# Altium schematic symbol library misc.SchLib: 48 symbols
Pins are listed as number, name and electrical type; pins without a type are passive.

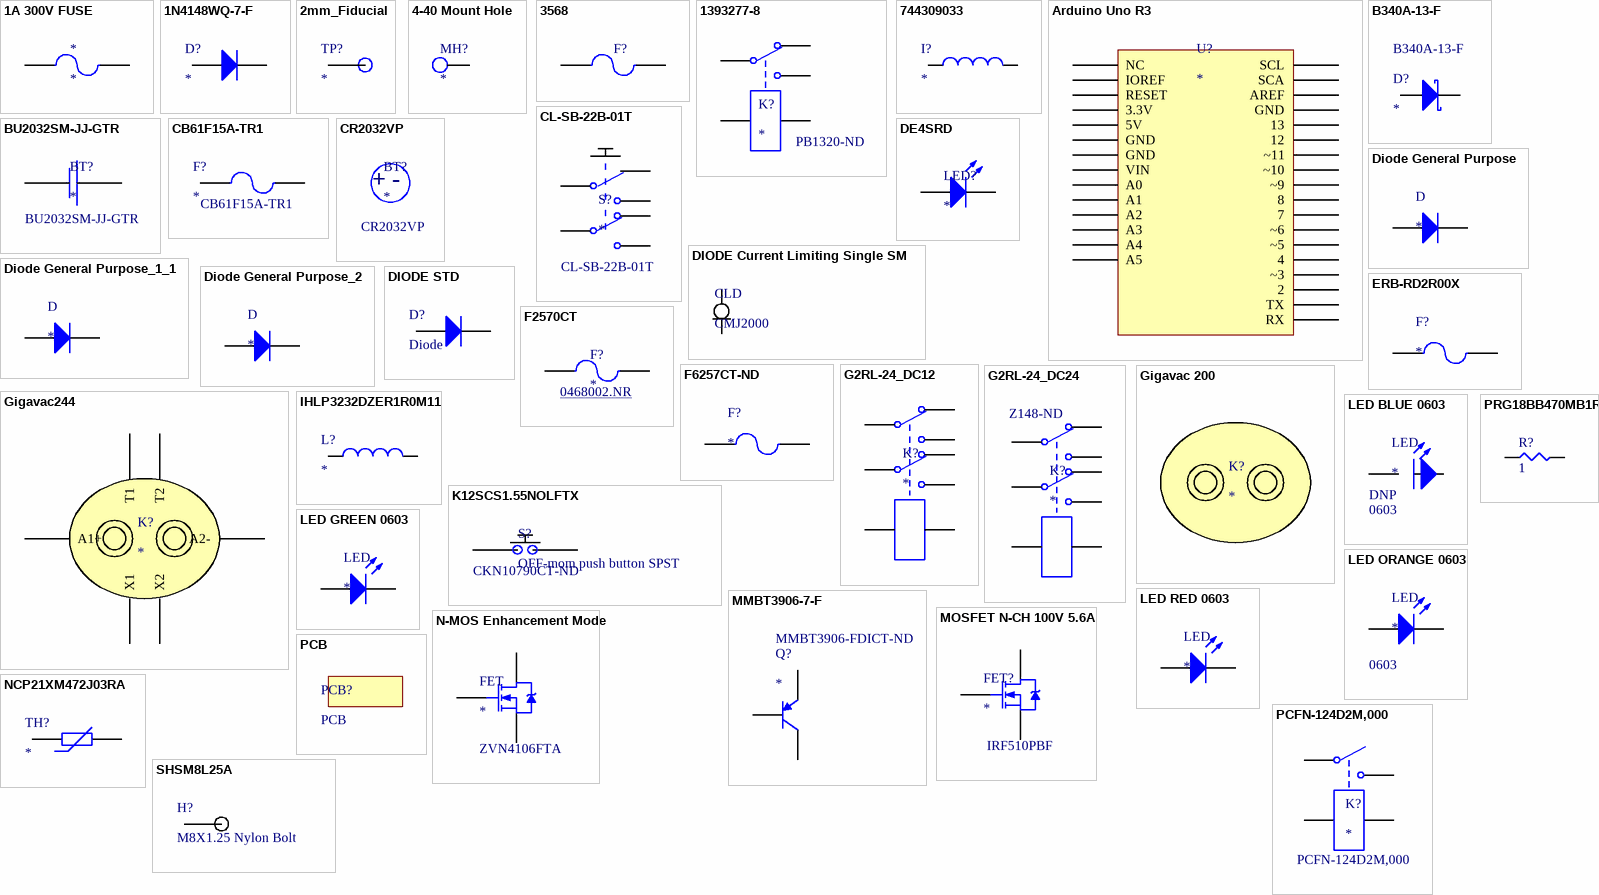
[diagram p0: symbols 1A 300V FUSE to SHSM8L25A]

## 1A 300V FUSE
designator *
1A 300V Fuse; ComponentLink1Description: Manufacturer Data Sheet; ComponentLink1URL: http://www.littelfuse.com/~/media/electronics/datasheets/fuses/littelfuse_fuse_462_datasheet.pdf.pdf; ComponentLink2Description: Digikey; ComponentLink2URL: https://www.digikey.com/product-detail/en/littelfuse-inc/46211000000/F6007CT-ND/4146345
footprint SMD-1206-RES
pins: 1, 2

## 1N4148WQ-7-F
designator D?
Diodes - General Purpose, Power, Switching SMT Fast Switching Diode; Manufacturer P/N: 1N4148WQ-7-F; Manufacturer: Diodes Inc.; Digikey Link: https://www.digikey.com/product-detail/en/diodes-incorporated/1N4148WQ-7-F/1N4148WQ-7-FDITR-ND/8136126; Digikey P/N: 1N4148WQ-7-FDITR-ND
footprint SODFL350X80-2N (SODFL, 2-Leads, Body 1.60x3.50mm, IPC Medium Density)
pins: 1 A, 2 K

## 2mm_Fiducial
designator TP?
Fiducial 2mm
footprint 2mm_Fiducial
pins: 1

## 4-40 Mount Hole
designator MH?
footprint MH (#10 Mount Hole)
pins: 46

## 3568
designator F?  (value not drawn)
FUSE HOLDER MINI AUTO PC; Manufacturer: Keystone Electronics; Manufacturer Part Number: 3568; Material: Brass,Tin,Nylon; Color: Black; Body Material: Nylon; Current Rating: 20A; Voltage Rating (AC): 500V; Number of Poles: 1; Illumination Type: Illuminated; Fuse Type: Automotive; Approvals: UL; Supplier 1: Digi-Key; Stock 1: 0; Mount: PCB,Vertical; Contact Material: Brass,Tin; Contact Plating: Tin; Min Operating Temperature: -50°C; Max Operating Temperature: 145°C; Package Quantity: 1; Termination: PC Pin; Orientation: Vertical; Number of Circuits: 1; Voltage: 500V; Fuse Current: 20A; Length: 16mm; Depth: 6.73mm; Lead Free: Lead Free; REACH SVHC: No SVHC; Flammability Rating: UL94 V-0; ComponentLink1URL: http://www.keyelco.com/userAssets/file/M60-2p40.pdf?src-supplier=Future+Electronics; ComponentLink1Description: http://www.keyelco.com/userAssets/file/M60-2p40.pdf?src-supplier=Future+Electronics; ComponentLink2URL: https://www.alliedelec.com/m/d/15b4f09b8ba48c4b08efedd730709c21.pdf?src-supplier=Allied+Electronics; ComponentLink2Description: https://www.alliedelec.com/m/d/15b4f09b8ba48c4b08efedd730709c21.pdf?src-supplier=Allied+Electronics; Supplier Part Number 1: 3568K-ND
footprint Fuse Holder 30A 500V 1 Circuit Blade Through Hole
pins: 1, 2

## 1393277-8
designator K?  Supplier Part Number 1: PB1320-ND
RELAY AUTOMOTIVE SPDT 45A 24V; Manufacturer: TE Connectivity; Manufacturer Part Number: 1393277-8; Coil Current: 66.29mA; Coil Resistance: 362R; Coil Power: 1.6W; Operate Time: 5ms; Number of Contacts: 2; Release Time: 3ms; Coil Type: Non-Latching; Supplier 1: Digi-Key; Stock 1: 2937; Pricing 1: 1=5.39, 10=5.053, 25=4.4912, 50=4.2666, 100=4.042, 250=3.73328 (USD); Mount: Through Hole; Number of Pins: 7; Weight: 22g; Contact Material: Silver; Min Operating Temperature: -40°C; Max Operating Temperature: 105°C; Throw Configuration: SPDT; Coil Voltage (DC): 24V; Termination: PCB; Contact Current Rating: 45A; Current Rating: 45A; Packaging: Bulk; Package Quantity: 525; Relay Type: Relay; Length: 26.1mm; Height: 21.2mm; Depth: 21.1mm; Width: 21.1mm; Radiation Hardening: No; Lead Free: Lead Free; ELV: Compliant; ComponentLink1URL: https://www.verical.com/server-webapp/html/getDatasheet?partID=318318&src-supplier=Verical; ComponentLink1Description: https://www.verical.com/server-webapp/html/getDatasheet?partID=318318&src-supplier=Verical; ComponentLink2URL: https://www.te.com/commerce/DocumentDelivery/DDEController?Action=srchrtrv&DocNm=V23133-X0000-A001&DocType=DS&DocLang=English&src-supplier=Digi-Key; ComponentLink2Description: https://www.te.com/commerce/DocumentDelivery/DDEController?Action=srchrtrv&DocNm=V23133-X0000-A001&DocType=DS&DocLang=English&src-supplier=Digi-Key
footprint RELAY AUTOMOTIVE SPDT 45A 24V - duplicate
pins: 1, 2, 3, 4, 5

## 744309033
designator I?
FIXED IND 330NH 47.5A 0.165 MOHM; Manufacturer: Wurth; Manufacturer P/N: 744309033; Digikey Link: https://www.digikey.com/product-detail/en/wurth-electronics-inc/744309033/732-3006-1-ND/2626130; Digikey P/N: 732-3006-1-ND
footprint INDM140130X90N (Molded Inductor, 2-Leads, Body 14.00x13.00mm, IPC Medium Density)
pins: 1, 2

## Arduino Uno R3
designator U?
Arduino Uno R3
footprint Arduino Uno R3
pins: 1 NC, 2 IOREF, 3 RESET, 4 3.3V, 5 5V, 6 GND, 7 GND, 8 VIN, 9 A0, 10 A1, 11 A2, 12 A3, 13 A4, 14 A5, 15 RX, 16 TX, 17 2, 18 ~3, 19 4, 20 ~5, 21 ~6, 22 7, 23 8, 24 ~9, 25 ~10, 26 ~11, 27 12, 28 13, 29 GND, 30 AREF, 31 SCA, 32 SCL

## B340A-13-F
designator D?  Manufacturer Part Number: B340A-13-F
DIODE SCHOTTKY 40V 3A SMA; Manufacturer: Diodes; Element Configuration: Single; Peak Reverse Current: 500uA; Forward Voltage: 500mV; Max Forward Surge Current (Ifsm): 80A; Polarity: Standard; Capacitance: 250pF; Supplier 1: Digi-Key; Stock 1: 438328; Pricing 1: 1=0.42000, 10=0.33900, 100=0.23070, 500=0.17304, 1000=0.12978 (USD); RoHS: Yes; Mount: Surface Mount; Case/Package: SMA; Number of Pins: 2; Weight: 0.002258oz; Contact Plating: Tin,Matte; Min Operating Temperature: -55°C; Max Operating Temperature: 125°C; Forward Current: 3A; Max Repetitive Reverse Voltage (Vrrm): 40V; Packaging: Tape and Reel; Peak Non-Repetitive Surge Current: 80A; Package Quantity: 5000; Average Rectified Current: 3A; Termination: SMD/SMT; Voltage Rating (DC): 40V; Current Rating: 3A; Output Current: 3A; Current: 3A; Voltage: 40V; Max Reverse Voltage (DC): 40V; Length: 4.6mm; Height: 2.3mm; Width: 2.92mm; Radiation Hardening: No; REACH SVHC: No SVHC; Lead Free: Lead Free; ComponentLink1URL: https://datasheet.ciiva.com/26949/getdatasheetpartid-143394-26949352.pdf?src-supplier=Verical; ComponentLink1Description: https://datasheet.ciiva.com/26949/getdatasheetpartid-143394-26949352.pdf?src-supplier=Verical; ComponentLink2URL: https://datasheet.ciiva.com/4245/861ds30891-4245763.pdf?src-supplier=Arrow; ComponentLink2Description: https://datasheet.ciiva.com/4245/861ds30891-4245763.pdf?src-supplier=Arrow; ComponentLink3URL: https://datasheet.ciiva.com/1177/ds30891-1177476.pdf?src-supplier=Element14; ComponentLink3Description: https://datasheet.ciiva.com/1177/ds30891-1177476.pdf?src-supplier=Element14; ComponentLink4URL: https://datasheet.ciiva.com/913/ds30891-913638.pdf?src-supplier=Digi-Key; ComponentLink4Description: https://datasheet.ciiva.com/913/ds30891-913638.pdf?src-supplier=Digi-Key; ComponentLink5URL: https://datasheet.ciiva.com/46393/1911813-46393773.pdf?src-supplier=Element14; ComponentLink5Description: https://datasheet.ciiva.com/46393/1911813-46393773.pdf?src-supplier=Element14; ComponentLink6URL: https://datasheet.ciiva.com/1240/ds30891-1240228.pdf?src-supplier=Newark; ComponentLink6Description: https://datasheet.ciiva.com/1240/ds30891-1240228.pdf?src-supplier=Newark; ComponentLink7URL: https://datasheet.ciiva.com/913/ds30891-913637.pdf?src-supplier=Digi-Key; ComponentLink7Description: https://datasheet.ciiva.com/913/ds30891-913637.pdf?src-supplier=Digi-Key; ComponentLink8URL: https://datasheet.ciiva.com/913/ds30891-913639.pdf?src-supplier=Digi-Key; ComponentLink8Description: https://datasheet.ciiva.com/913/ds30891-913639.pdf?src-supplier=Digi-Key; Supplier Part Number 1: B340A-FDICT-ND
footprint DIOM4326X20N (Molded Diode, 2-Leads, Body 4.30x2.61mm, IPC Medium Density)
pins: 1 K, 2 A

## BU2032SM-JJ-GTR
designator BT?  Manufacturer Part Number: BU2032SM-JJ-GTR
HOLDER COIN CELL 2032 SMD; Manufacturer: Memory Protection Devices; Number of Cells: 1; Supplier 1: Digi-Key; Stock 1: 90564; Pricing 1: 1=0.99, 10=0.836, 100=0.6907 (USD); Mount: Surface Mount,PCB; Min Operating Temperature: -40°C; Max Operating Temperature: 280°C; Package Quantity: 400; Termination: SMD/SMT; ComponentLink1URL: http://www.memoryprotectiondevices.com/datasheets/BU2032SM-JJ-GTR-datasheet.pdf?src-supplier=Digi-Key; ComponentLink1Description: http://www.memoryprotectiondevices.com/datasheets/BU2032SM-JJ-GTR-datasheet.pdf?src-supplier=Digi-Key; ComponentLink2URL: https://media.digikey.com/pdf/Data%20Sheets/Memory%20Protection%20PDFs/Coin_Cell_Guide.pdf?src-supplier=Digi-Key; ComponentLink2Description: https://media.digikey.com/pdf/Data%20Sheets/Memory%20Protection%20PDFs/Coin_Cell_Guide.pdf?src-supplier=Digi-Key; Supplier Part Number 1: BU2032SM-JJ-GDKR-ND
footprint BATTERY HOLDER COIN 20MM
pins: 1 +, 2 -

## CB61F15A-TR1
designator F?  Manufacturer Part Number: CB61F15A-TR1
FUSE BRD MNT 15A 125VAC/VDC 2SMD; Manufacturer: Eaton; Voltage Rating (AC): 125V; DC Cold Resistance: 4mR; Fuse Type: Board Mount (Cartridge Style Excluded); Approvals: cULus,PSE; Supplier 1: Digi-Key; Stock 1: 11809; Pricing 1: 1=1.15000, 5=1.11800, 10=1.04600, 50=0.86600, 100=0.72160, 250=0.70356, 500=0.59532 (USD); RoHS: Yes; Mount: Surface Mount; Case/Package: SMD/SMT; Current Rating: 15A; Packaging: Tape and Reel; Voltage Rating (DC): 125V; Voltage Rating: 125V; Length: 0.24inch; Height: 0.101inch; Width: 0.101inch; Depth: 2.57mm; Lead Free: Lead Free; ComponentLink1URL: http://components.arrow.com/part/dataview/0323_05918082?src-supplier=Arrow+Europe; ComponentLink1Description: http://components.arrow.com/part/dataview/0323_05918082?src-supplier=Arrow+Europe; ComponentLink2URL: http://www.cooperindustries.com/content/dam/public/bussmann/Electronics/Resources/product-datasheets/bus-elx-ds-4377-cb61f.pdf?src-supplier=Avnet+Asia; ComponentLink2Description: http://www.cooperindustries.com/content/dam/public/bussmann/Electronics/Resources/product-datasheets/bus-elx-ds-4377-cb61f.pdf?src-supplier=Avnet+Asia; ComponentLink3URL: http://www.cooperindustries.com/content/dam/public/bussmann/Electronics/Resources/product-datasheets/bus-elx-ds-4377-cb61f.pdf?src-supplier=Avnet; ComponentLink3Description: http://www.cooperindustries.com/content/dam/public/bussmann/Electronics/Resources/product-datasheets/bus-elx-ds-4377-cb61f.pdf?src-supplier=Avnet; ComponentLink4URL: http://www.cooperindustries.com/content/dam/public/bussmann/Electronics/Resources/product-datasheets/bus-elx-ds-4377-cb61f.pdf?src-supplier=Digi-Key; ComponentLink4Description: http://www.cooperindustries.com/content/dam/public/bussmann/Electronics/Resources/product-datasheets/bus-elx-ds-4377-cb61f.pdf?src-supplier=Digi-Key; Supplier Part Number 1: 283-4104-1-ND
footprint RESC6132X26N (Chip Resistor, 2-Leads, Body 6.10x3.18mm, IPC Medium Density)
pins: 1, 2

## CL-SB-22B-01T
designator S?  Manufacturer Part Number: CL-SB-22B-01T
SWITCH SLIDE DPDT 200MA 12V; Manufacturer: Nidec Copal; Actuator Material: Nylon,Polyamide; Contact Style: Non-Shorting; Electrical Life: 10000Cycles; Switch Travel: 2mm; Switch Function: On-On; Actuator Type: Standard; Operating Force: 153gf; Supplier 1: Digi-Key; Stock 1: 3664; Pricing 1: 1=1.02, 10=0.979, 25=0.9592, 50=0.857, 100=0.8162, 250=0.79584 (USD); Mount: Surface Mount; Contact Material: Copper; Contact Plating: Silver; Min Operating Temperature: -40°C; Max Operating Temperature: 85°C; Packaging: Tape and Reel; Current Rating: 200mA; Voltage Rating (DC): 12V; Throw Configuration: DPDT; Termination: Gull Wing; Actuator Length: 2mm; Lead Free: Lead Free; ComponentLink1URL: https://www.nidec-copal-electronics.com/e/catalog/switch/cl-sb.pdf?src-supplier=Digi-Key; ComponentLink1Description: https://www.nidec-copal-electronics.com/e/catalog/switch/cl-sb.pdf?src-supplier=Digi-Key; Supplier Part Number 1: 563-1342-6-ND
footprint SOP250P500X350-6N (SOP, 6-Leads, Body 8.50x3.50mm, Pitch 2.50mm, IPC Medium Density)
pins: 1, 2, 3, 4, 5, 6

## CR2032VP
designator BT?  Manufacturer Part Number: CR2032VP  (mechanical)
BATTERY LITHIUM 3V COIN 20MM; Manufacturer: Energizer; Capacity: 240mAh; Supplier 1: Newark; Stock 1: 0; Weight: 0.1oz; Voltage Rating: 3V; Package Quantity: 200; Height: 0.13inch; ComponentLink1URL: http://data.energizer.com/pdfs/cr2032.pdf?src-supplier=Digi-Key; ComponentLink1Description: http://data.energizer.com/pdfs/cr2032.pdf?src-supplier=Digi-Key; Supplier Part Number 1: 41P0336
text: + -

## DE4SRD
designator LED?
LED Bars and Arrays Red 640nm 300mcd Diffused Light Bar; Manufacturer: Kingbright; Manufacturer Part Number: DE4SRD; Lens Style: Diffused,Tinted; Voltage Rating: 1.85V; Luminous Intensity: 340mcd; Current: 30mA; Forward Current: 20mA; Power Rating: 75mW; Element Configuration: Single; Supplier 1: Digi-Key; Stock 1: 3382; Pricing 1: 1=2.5, 10=2.217, 100=1.287, 500=1.144, 1000=0.98313, 2500=0.9295 (USD); Mount: Through Hole; Color: Red; Package Quantity: 33; Forward Voltage: 1.85V; Packaging: Rail/Tube; Illumination Color: Red; Lead Free: Lead Free; ComponentLink1URL: http://www.mouser.com/ds/2/216/DE4SRD-69987.pdf?src-supplier=Mouser; ComponentLink1Description: http://www.mouser.com/ds/2/216/DE4SRD-69987.pdf?src-supplier=Mouser; ComponentLink2URL: http://www.kingbrightusa.com/images/catalog/SPEC/DE4SRD.pdf?src-supplier=Digi-Key; ComponentLink2Description: http://www.kingbrightusa.com/images/catalog/SPEC/DE4SRD.pdf?src-supplier=Digi-Key; Supplier Part Number 1: 754-1672-5-ND
footprint DE4SRD
pins: 1 A, 2 K

## DIODE Current Limiting Single SM
designator CLD, comment CMJ2000
DIODE CURRENT LIMITING SINGLE SM; Manufacturer: Central Semiconductor Corp; Manufacturer P/N: CMJ2000 TR; Vin Max: 100V; Current Output: 2mA; Do Not Populate: *; ComponentLink1Description: Digikey; ComponentLink1URL: https://www.digikey.com/product-detail/en/central-semiconductor-corp/CMJ2000-TR/CMJ2000CT-ND/5018676; Package / Case: SOD-123F; Digikey P/N: CMJ2000CT-ND
footprint SODFL350X80-2N (SODFL, 2-Leads, Body 1.60x3.50mm, IPC Medium Density)
pins: 1, 2

## Diode General Purpose
designator D
DIODE GEN PURP REV 1.6KV 300A DO9; Manufacturer: GeneSic Semiconductor; Manufacturer P/N: S300YR; Digikey P/N: 1242-1080-ND; Package / Case: DO-205AB, DO-9, Stud; Do Not Populate: *; ComponentLink1Description: Digikey; ComponentLink1URL: https://www.digikey.com/product-detail/en/genesic-semiconductor/S300YR/1242-1080-ND/3594361
pins: 1 A, 2 K

## Diode General Purpose_1_1
designator D
DIODE GEN PURP 100V 150MA SOD123; Manufacturer: Micro Commercial Co; Manufacturer P/N: 1N4148W-TP; ComponentLink1Description: Digikey; ComponentLink1URL: https://www.digikey.com/product-detail/en/micro-commercial-co/1N4148W-TP/1N4148WTPMSTR-ND/717196; Digikey P/N: 1N4148WTPMSTR-ND; Package / Case: SOD123; Do Not Populate: *
footprint SODFL370X135-2N (SODFL, 2-Leads, Body 1.60x3.70mm, IPC Medium Density)
pins: 1 A, 2 K

## Diode General Purpose_2
designator D
DIODE GEN PURP 20V 350MA SOD323; Manufacturer: Diodes Incorporated; Manufacturer P/N: SD103CWS-7-F; Digikey P/N: SD103CWS-FDIDKR-ND; Package / Case: SOD323; Do Not Populate: *; ComponentLink1Description: Digikey; ComponentLink1URL: https://www.digikey.com/product-detail/en/diodes-incorporated/SD103CWS-7-F/SD103CWS-FDIDKR-ND/1836772; ComponentLink2Description: Datasheet; ComponentLink2URL: https://www.diodes.com/assets/Datasheets/ds30101.pdf; ComponentLink3Description: Dimensions; ComponentLink3URL: https://www.diodes.com/assets/Package-Files/SOD323.pdf
footprint SODFL250X110-2N (SODFL, 2-Leads, Body 1.30x2.50mm, IPC Medium Density)
pins: 1 A, 2 K

## DIODE STD
designator D?, comment Diode
DIODE GEN PURP 200V 2A SOD123FL; Manufacturer: ON SEMI; Manufacturer P/N: NHP220SFT3G; Digikey Link: https://www.digikey.com/product-detail/en/on-semiconductor/NHP220SFT3G/NHP220SFT3GOSCT-ND/5801747; Digikey P/N: NHP220SFT3GOSCT-ND
footprint SODFL360X110-2N (SODFL, 2-Leads, Body 1.65x3.60mm, IPC Medium Density)
pins: 1 K, 2 A

## ERB-RD2R00X
designator F?
FUSE BOARD MOUNT 2A 32VDC 0402; Manufacturer: Panasonic; Manufacturer P/N: ERB-RD2R00X; Digikey P/N: P15123TR-ND; Digikey Link: https://www.digikey.com/product-detail/en/panasonic-electronic-components/ERB-RD2R00X/P15123TR-ND/2796785
footprint SMD-0402-RES
pins: 1, 2

## F2570CT
designator F?  Manufacturer Part Number: 0468002.NR
FUSE BOARD MNT 2A 63VAC/VDC 1206; Manufacturer: Littelfuse; Voltage Rating (AC): 63V; Resistance: 32.4mR; Power Dissipation: 154.5mW; Fuse Type: Board Mount (Cartridge Style Excluded); Approvals: UL,CSA; Supplier 1: Digi-Key; Stock 1: 13091; Pricing 1: 1=1.2, 5=1.166, 10=1.091, 50=0.9028, 100=0.7524, 250=0.7336, 500=0.62074, 1000=0.54549 (USD); Mount: Surface Mount; Case/Package: 1206; Number of Pins: 2; Case Code (Metric): 3216; Case Code (Imperial): 1206; Terminal Material: Tin; Min Operating Temperature: -55°C; Max Operating Temperature: 90°C; Voltage Rating (DC): 63V; Current Rating: 2A; Packaging: Tape and Reel; Package Quantity: 5000; Voltage Rating: 63V; Termination: SMD/SMT; Composition: Thin Film; DC Cold Resistance: 32.4mR; Fuse Current: 2A; Length: 3.18mm; Height: 0.58mm; Width: 1.52mm; Depth: 1.52mm; Radiation Hardening: No; REACH SVHC: Unknown; Lead Free: Lead Free; ComponentLink1URL: http://www.farnell.com/datasheets/94905.pdf?src-supplier=Farnell; ComponentLink1Description: http://www.farnell.com/datasheets/94905.pdf?src-supplier=Farnell; ComponentLink2URL: http://www.littelfuse.com/~/media/electronics/datasheets/fuses/littelfuse_fuse_468_datasheet.pdf.pdf?src-supplier=Digi-Key; ComponentLink2Description: http://www.littelfuse.com/~/media/electronics/datasheets/fuses/littelfuse_fuse_468_datasheet.pdf.pdf?src-supplier=Digi-Key; ComponentLink3URL: http://www.farnell.com/datasheets/1851811.pdf?src-supplier=Element14; ComponentLink3Description: http://www.farnell.com/datasheets/1851811.pdf?src-supplier=Element14; ComponentLink4URL: http://www.littelfuse.com/~/media/electronics/datasheets/fuses/littelfuse_fuse_468_datasheet.pdf.pdf?src-supplier=Future+Electronics; ComponentLink4Description: http://www.littelfuse.com/~/media/electronics/datasheets/fuses/littelfuse_fuse_468_datasheet.pdf.pdf?src-supplier=Future+Electronics; Supplier Part Number 1: F2570DKR-ND
footprint SMD-1206-RES
pins: 1, 2

## F6257CT-ND
designator F?
FUSE BOARD MNT 500MA 350VAC/VDC; Manufacturer: Littelfuse; Manufacturer P/N: 46205000000; Digikey P/N: F6257CT-ND; Digikey Link: https://www.digikey.com/product-detail/en/littelfuse-inc/46205000000/F6257CT-ND/4331764
footprint FUSE BOARD MNT 500MA 350VAC/VDC
pins: 1, 2

## G2RL-24_DC12
designator K?
RELAY GEN PURPOSE DPDT 8A 12V; Manufacturer: Omron Electronics; Manufacturer P/N: G2RL-24 DC12; Digikey Link: https://www.digikey.com/product-detail/en/omron-electronics-inc-emc-div/G2RL-24-DC12/Z147-ND/307667; Digikey P/N: Z147-ND
footprint G2RL
pins: 1, 2, 3, 4, 5, 6, 7, 8

## G2RL-24_DC24
designator K?  Supplier Part Number 1: Z148-ND
RELAY GEN PURPOSE DPDT 8A 24V; Manufacturer: Omron; Manufacturer Part Number: G2RL-24-DC24; Voltage Rating (AC): 440V; Voltage Rating (DC): 300V; Power Consumption: 400mW; Coil Resistance: 1.44kR; Coil Current: 16.7mA; Operate Time: 15ms; Coil Type: Non-Latching; Relay Type: General Purpose; Release Time: 5ms; Supplier 1: Digi-Key; Stock 1: 13387; Pricing 1: 1=4.32, 10=4.053, 25=3.6028, 50=3.4226, 100=3.2425, 250=2.88224, 500=2.7021 (USD); Mount: Through Hole; Case/Package: DIP; Number of Pins: 8; Weight: 12g; Contact Material: Silver,Cadmium; Min Operating Temperature: -40°C; Max Operating Temperature: 85°C; Max Current Rating: 8A; Packaging: Bulk; Max Voltage Rating (AC): 440V; Max Voltage Rating (DC): 300V; Package Quantity: 20; Throw Configuration: DPDT; Termination: PC Pin; Contact Current Rating: 8A; Coil Voltage (DC): 24V; Coil Power: 400mW; Power Rating: 400mW; Length: 29mm; Height: 15.7mm; Width: 12.7mm; Depth: 12.7mm; Radiation Hardening: No; Lead Free: Lead Free; ComponentLink1URL: http://www.alliedelec.com/images/products/datasheets/bm/OMRON_ELECTRONICS_LLC/70175264.pdf?src-supplier=Allied+Electronics; ComponentLink1Description: http://www.alliedelec.com/images/products/datasheets/bm/OMRON_ELECTRONICS_LLC/70175264.pdf?src-supplier=Allied+Electronics; ComponentLink2URL: http://www.mouser.com/ds/2/307/en-g2rl-472571.pdf?src-supplier=Mouser; ComponentLink2Description: http://www.mouser.com/ds/2/307/en-g2rl-472571.pdf?src-supplier=Mouser
footprint G2RL
pins: 1, 2, 3, 4, 5, 6, 7, 8

## Gigavac244
designator K?
Gigavac 244CPB
footprint Gigavac240
pins: 1 A1+, 2 A2-, 3 X1, 4 X2, 5 T1, 6 T2

## Gigavac 200
designator K?
ComponentLink1Description: http://www.gigavac.com/sites/default/files/catalog/spec_sheet/gv200.pdf; ComponentLink1URL: http://www.gigavac.com/sites/default/files/catalog/spec_sheet/gv200.pdf
footprint Gigavac 200

## IHLP3232DZER1R0M11
designator L?
Fixed Inductors 1uH 20% Low Profile; Manufacturer: Vishay Dale; Manufacturer Part Number: IHLP3232DZER1R0M11; Core Material: Metal,Composite,Ferrite; Current Rating: 18.2A; Saturation Current: 12A; Shielding: Shielded; Self Resonant Frequency: 49MHz; DC Resistance (DCR): 4.63mR; Test Frequency: 100kHz; Supplier 1: Digi-Key; Stock 1: 9463; Pricing 1: 1=1.61000, 10=1.49500, 100=1.08100 (USD); RoHS: Yes; Mount: Surface Mount; Case/Package: 3232; Number of Pins: 2; Min Operating Temperature: -55°C; Max Operating Temperature: 125°C; Inductance Tolerance: 20%; Packaging: Tape and Reel; Tolerance: 20%; Package Quantity: 500; Inductance: 1uH; Max DC Current: 18.2A; Termination: SMD/SMT; RMS Current (Irms): 18.2A; Military Standard: Not; Length: 8.64mm; Height: 4mm; Width: 0.322inch; Height - Seated (Max): 0.157inch; Depth: 8.94mm; Radiation Hardening: No; REACH SVHC: Unknown; Lead Free: Lead Free; ComponentLink1URL: https://datasheet.ciiva.com/6692/ihlp-3232dz-11-6692199.pdf?src-supplier=Digi-Key; ComponentLink1Description: https://datasheet.ciiva.com/6692/ihlp-3232dz-11-6692199.pdf?src-supplier=Digi-Key; ComponentLink2URL: https://datasheet.ciiva.com/6692/ihlp-3232dz-11-6692200.pdf?src-supplier=Digi-Key; ComponentLink2Description: https://datasheet.ciiva.com/6692/ihlp-3232dz-11-6692200.pdf?src-supplier=Digi-Key; ComponentLink3URL: https://datasheet.ciiva.com/6692/ihlp-3232dz-11-6692201.pdf?src-supplier=Digi-Key; ComponentLink3Description: https://datasheet.ciiva.com/6692/ihlp-3232dz-11-6692201.pdf?src-supplier=Digi-Key; ComponentLink4URL: https://datasheet.ciiva.com/17113/70231623-17113262.pdf?src-supplier=Allied+Electronics; ComponentLink4Description: https://datasheet.ciiva.com/17113/70231623-17113262.pdf?src-supplier=Allied+Electronics; Supplier Part Number 1: 541-1348-1-ND
footprint INDM8682X40N (Molded Inductor, 2-Leads, Body 8.64x8.18mm, IPC Medium Density)
pins: 1, 2

## K12SCS1.55NOLFTX
designator S?, comment OFF-mom push button SPST  Supplier Part Number 1: CKN10790CT-ND
OFF-mom push button SPST K12SCS1.55NOLFTX; Manufacturer: ITT C&K; Mechanical Life: 200000Cycles; Current Rating: 100mA; Voltage Rating (DC): 30V; Actuator Type: Round, Button; Ratings: IP40; Supplier 1: Digi-Key; Manufacturer Part Number: K12SCS1.55NOLFTX; Stock 1: 4036; Pricing 1: 1=2.33, 10=2.175, 25=2.0716, 50=1.968, 100=1.9162, 250=1.86436 (USD); Mount: Surface Mount; Min Operating Temperature: -40°C; Max Operating Temperature: 85°C; Throw Configuration: SPST; Packaging: Cut Tape; Switch Function: Off-Mom; Termination: SMD/SMT; Electrical Life: 200000Cycles; ComponentLink1URL: https://www.ckswitches.com/media/1338/k12s.pdf?src-supplier=Digi-Key; ComponentLink1Description: https://www.ckswitches.com/media/1338/k12s.pdf?src-supplier=Digi-Key; ComponentLink2Description: https://www.digikey.com/product-detail/en/c-k/K12SCS1.55NOLFTX/CKN10790CT-ND/7056072; ComponentLink2URL: https://www.digikey.com/product-detail/en/c-k/K12SCS1.55NOLFTX/CKN10790CT-ND/7056072
footprint K12SCS1.55NOLFTX
pins: 1, 2

## LED BLUE 0603
designator LED  Package / Case: 0603
A-0603UBC; Manufacturer: Lighthouse LEDs; Minimum Quantity: 1; Unit Price (USD): 0.20; Manufacturer P/N: A-0603UBC; Color: BLUE; Datasheets: https://lighthouseleds.com/downloads/dl/file/id/10/0603_blue_smd_led_datasheet.pdf; Availability: In Stock; ComponentLink1Description: Manufacturer; ComponentLink1URL: https://lighthouseleds.com/0603-smd-led-blue-ultra-bright-140-mcd.html; DNP: DNP
footprint LED 0603 BLUE (Chip Diode, 2-Leads, Body 1.60x0.80mm)
pins: 1 A, 2 K

## LED GREEN 0603
designator LED
Manufacturer: Lite-On Inc.; Manufacturer P/N: LTST-C190KGKT; Digikey P/N: 160-1435-1-ND; Package / Case: 0603; Color: GREEN
footprint LED 0603 GREEN (Chip Diode, 2-Leads, Body 1.60x0.80mm, IPC Medium Density)
pins: 1 A, 2 K

## LED ORANGE 0603
designator LED  Package / Case: 0603
A-0603UOC; Manufacturer: Lighthouse LEDs; Minimum Quantity: 1; Manufacturer P/N: A-0603UOC; Color: ORANGE; ComponentLink1Description: Manufacturer; ComponentLink1URL: https://lighthouseleds.com/0603-smd-led-orange-ultra-bright-170-mcd.html; Datasheets: https://lighthouseleds.com/downloads/dl/file/id/11/0603_orange_amber_smd_led_datasheet.pdf; Availability: In Stock
footprint LED 0603 ORANGE (Chip Diode, 2-Leads, Body 1.60x0.80mm)
pins: 1 A, 2 K

## LED RED 0603
designator LED
Red 631nm LED Indication - Discrete 2V 0603 (1608 Metric); Manufacturer: Lite-On Inc.; Manufacturer P/N: LTST-C190KRKT; Digikey P/N: 160-1436-1-ND; Package / Case: 0603; Color: RED
footprint LED 0603 RED (Chip Diode, 2-Leads, Body 1.60x0.80mm, IPC Medium Density)
pins: 1 A, 2 K

## MMBT3906-7-F
designator Q?  Supplier Part Number 1: MMBT3906-FDICT-ND
Manufacturer: Diodes Zetex; Manufacturer Part Number: MMBT3906-7-F; Collector Emitter Voltage (VCEO): 40V; Max Power Dissipation: 300mW; Polarity: PNP; Max Collector Current: 200mA; hFE Min: 100; Number of Elements: 1; Frequency: 250MHz; Emitter Base Voltage (VEBO): 6V; Collector Emitter Saturation Voltage: -400mV; Element Configuration: Single; Continuous Collector Current: -200mA; Voltage Rating (DC): -40V; Supplier 1: Digi-Key; Stock 1: 687580; Pricing 1: 1=0.12000, 10=0.11400, 100=0.06190, 500=0.03806, 1000=0.02596 (USD); RoHS: Yes; Mount: Surface Mount; Case/Package: SOT-23; Number of Pins: 3; Weight: 0.000282oz; Contact Plating: Tin,Matte; Min Operating Temperature: -55°C; Max Operating Temperature: 150°C; Packaging: Tape and Reel; Package Quantity: 3000; Transition Frequency: 250MHz; Collector Emitter Breakdown Voltage: 40V; Max Breakdown Voltage: 40V; Collector Base Voltage (VCBO): 40V; Power Dissipation: 300mW; Max Frequency: 250MHz; Gain Bandwidth Product: 250MHz; Current Rating: -200mA; Length: 3.05mm; Height: 1mm; Width: 1.4mm; Radiation Hardening: No; REACH SVHC: No SVHC; Lead Free: Lead Free; ComponentLink1URL: https://datasheet.ciiva.com/27052/1540746-27052408.pdf?src-supplier=Jameco; ComponentLink1Description: https://datasheet.ciiva.com/27052/1540746-27052408.pdf?src-supplier=Jameco; ComponentLink2URL: https://datasheet.ciiva.com/15139/getdatasheetpartid-255292-15139821.pdf?src-supplier=Verical; ComponentLink2Description: https://datasheet.ciiva.com/15139/getdatasheetpartid-255292-15139821.pdf?src-supplier=Verical
footprint SOTFL103P240X110-3N
pins: 1 B, 2 E, 3 C

## MOSFET N-CH 100V 5.6A
designator FET?  Manufacturer P/N: IRF510PBF
N-Channel 100V 5.6A (Tc) 43W (Tc) Through Hole TO-220AB; Manufacturer: Vishay Siliconix; Digikey P/N: IRF510PBF-ND
footprint TO220AB
pins: 1 G, 2 D, 3 S

## N-MOS Enhancement Mode
designator FET  Manufacturer P/N: ZVN4106FTA
MOSFET N-CH 60V 200MA SOT23-3; Manufacturer: Zetex; Digikey P/N: ZVN4106FCT-ND
footprint SOT95P240X110-3N (SOT23, 3-Leads, Body 2.90x2.40mm, Pitch 0.95mm, IPC Medium Density)
pins: 1 G, 2 D, 3 S

## NCP21XM472J03RA
designator TH?
NTC THERMISTOR 4.7K OHM 5% 0805; Manufacturer: Murata; Manufacturer Part Number: NCP21XM472J03RA; Resistance: 4.7kR; Power Rating: 200mW; Current Rating: 650uA; Accuracy: 3%; Supplier 1: Digi-Key; Stock 1: 51855; Pricing 1: 1=0.20000, 5=0.19400, 10=0.17300, 25=0.15920, 50=0.12760, 100=0.10930, 500=0.09564, 1000=0.08197 (USD); RoHS: Yes; Mount: Surface Mount; Case/Package: 0805; Number of Pins: 2; Case Code (Metric): 2012; Case Code (Imperial): 0805; Min Operating Temperature: -40°C; Max Operating Temperature: 125°C; Tolerance: 5%; Packaging: Tape and Reel; Package Quantity: 4000; Max Power Dissipation: 200mW; Termination: SMD/SMT; Length: 2mm; Height: 0.85mm; Depth: 1.25mm; Width: 1.25mm; Radiation Hardening: No; REACH SVHC: No SVHC; Lead Free: Lead Free; ComponentLink1URL: https://datasheet.ciiva.com/30488/0900766b81259d06-30488337.pdf?src-supplier=RSComponents; ComponentLink1Description: https://datasheet.ciiva.com/30488/0900766b81259d06-30488337.pdf?src-supplier=RSComponents; ComponentLink2URL: https://datasheet.ciiva.com/2848/r44e-2848550.pdf?src-supplier=Digi-Key; ComponentLink2Description: https://datasheet.ciiva.com/2848/r44e-2848550.pdf?src-supplier=Digi-Key; ComponentLink3URL: https://datasheet.ciiva.com/24155/r44e-24155222.pdf?src-supplier=Future+Electronics; ComponentLink3Description: https://datasheet.ciiva.com/24155/r44e-24155222.pdf?src-supplier=Future+Electronics; ComponentLink4URL: https://datasheet.ciiva.com/2848/r44e-2848551.pdf?src-supplier=Digi-Key; ComponentLink4Description: https://datasheet.ciiva.com/2848/r44e-2848551.pdf?src-supplier=Digi-Key; ComponentLink5URL: https://datasheet.ciiva.com/2848/r44e-2848552.pdf?src-supplier=Digi-Key; ComponentLink5Description: https://datasheet.ciiva.com/2848/r44e-2848552.pdf?src-supplier=Digi-Key; ComponentLink6URL: https://datasheet.ciiva.com/16634/l0770c-16634105.pdf?src-supplier=Avnet+Europe; ComponentLink6Description: https://datasheet.ciiva.com/16634/l0770c-16634105.pdf?src-supplier=Avnet+Europe; ComponentLink7URL: https://datasheet.ciiva.com/3280/l0770c-3280522.pdf?src-supplier=Avnet; ComponentLink7Description: https://datasheet.ciiva.com/3280/l0770c-3280522.pdf?src-supplier=Avnet; Supplier Part Number 1: 490-2453-1-ND
footprint SMD-0805-RES
pins: 1, 2

## PCB
designator PCB?
footprint PCB

## PCFN-124D2M,000
designator K?  Manufacturer Part Number: PCFN-124D2M,000
RELAY, PCB, SPST-NO, 24VDC, 25A; Manufacturer: TE Connectivity; Coil Current: 37.5mA; Throw Configuration: SPST; Coil Resistance: 640R; Operate Time: 20ms; Release Time: 10ms; Coil Power: 1W; Relay Type: General Purpose; Coil Type: Non-Latching; Coil Voltage (DC): 24V; Contact Voltage Rating (AC): 277V; Approvals: UL,VDE; Supplier 1: Digi-Key; Stock 1: 401; Pricing 1: 1=3.7, 10=3.473, 25=3.0872, 50=2.9326, 100=2.7783, 250=2.4696, 500=2.31526, 1000=2.1609 (USD); Mount: Through Hole,PCB; Weight: 28g; Contact Material: Tin,Silver; Min Operating Temperature: -30°C; Max Operating Temperature: 55°C; Contact Current Rating: 25A; Termination: PCB; Package Quantity: 500; Packaging: Rail/Tube; Current Rating: 25A; Voltage Rating (DC): 24V; Length: 30.4mm; Height: 1.043inch; Depth: 16mm; Width: 0.63inch; REACH SVHC: Unknown; ELV: Compliant; ComponentLink1URL: http://www.farnell.com/cad/1652771.pdf?src-supplier=Element14; ComponentLink1Description: http://www.farnell.com/cad/1652771.pdf?src-supplier=Element14; ComponentLink2URL: http://www.farnell.com/datasheets/2043483.pdf?src-supplier=Farnell; ComponentLink2Description: http://www.farnell.com/datasheets/2043483.pdf?src-supplier=Farnell; Supplier Part Number 1: PB2178-ND; ComponentLink3Description: https://www.te.com/commerce/DocumentDelivery/DDEController?Action=srchrtrv&DocNm=PCFN_solar_relay_datasheet&DocType=DS&DocLang=English; ComponentLink3URL: https://www.te.com/commerce/DocumentDelivery/DDEController?Action=srchrtrv&DocNm=PCFN_solar_relay_datasheet&DocType=DS&DocLang=English
footprint PCFN-124D2M,000
pins: 1, 2, 3, 4

## PRG18BB470MB1RB
designator R?, comment 1
PTC RESET FUSE 6V 330MA 0603; Manufacturer P/N: PRG18BC1R0MM1RB; Manufacturer: Murata; Factory Stock: 0; Unit Price (USD): 0.10080; @ qty: 1500; Tolerance: ±1%; Power (Watts): 0.167W, 1/6W; Temperature Coefficient: ±250ppm/°C; Digikey Link: https://www.digikey.com/product-detail/en/murata-electronics-north-america/PRG18BC1R0MM1RB/490-8505-1-ND/4380768; Image: //media.digikey.com/Photos/Panasonic%20Photos/ERJ-PA2-Series.jpg; Digi-Key Part Number: 490-8505-1-ND; Quantity Available: 14922; Minimum Quantity: 1; Packaging: Cut Tape (CT); Part Status: Active; Value: 1; Composition: Thick Film; Features: Automotive AEC-Q200, Current Sense; Operating Temperature: -55°C ~ 125°C; Package / Case: 0603; Supplier Device Package: 0402; Size / Dimension: 0.039" L x 0.020" W (1.00mm x 0.50mm); Height - Seated (Max): 0.016" (0.40mm); Number of Terminations: 2; Failure Rate: -
footprint SMD-0603-RES
pins: 1, 2

## SHSM8L25A
designator H?, comment M8X1.25 Nylon Bolt  (mechanical)
NYLON M8 X 1.25 SOCKET HEAD CAP; Manufacturer: Essentra Components; Manufacturer Part Number: SHSM8L25A; Supplier 1: Digi-Key; Stock 1: 2861; Pricing 1: 1=0.41, 10=0.293, 25=0.2756, 100=0.2345, 500=0.21108, 1000=0.19935, 5000=0.15831 (USD); Material: Nylon; ComponentLink1Description: https://www.digikey.com/product-detail/en/essentra-components/SHSM8L25A/RPC6212-ND/9343053; ComponentLink1URL: https://www.digikey.com/product-detail/en/essentra-components/SHSM8L25A/RPC6212-ND/9343053; Supplier Part Number 1: RPC6212-ND
pins: 1

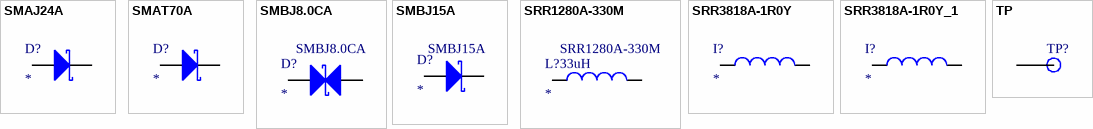
[diagram p1: symbols SMAJ24A to TP]

## SMAJ24A
designator D?
TVS DIODE 24V 38.9V DO214AC; Manufacturer: LittelFuse Inc; Manufacturer P/N: SMAJ24A; Digikey P/N: SMAJ24ALFCT-ND; Digikey Link: https://www.digikey.com/product-detail/en/littelfuse-inc/SMAJ24A/SMAJ24ALFCT-ND/762500
footprint INDM5026X18N (Molded Inductor, 2-Leads, Body 5.04x2.59mm, IPC Medium Density)
pins: 1 A, 2 K

## SMAT70A
designator D?
TVS DIODE 70V 100V SMA; Manufacturer: Diodes Incorporated; Manufacturer P/N: SMAT70A-13-F; Digikey P/N: SMAT70A-FDICT-ND; Digikey Link: https://www.digikey.com/product-detail/en/diodes-incorporated/SMAT70A-13-F/SMAT70A-FDICT-ND/804910
footprint SMAT70A
pins: 1 K, 2 A

## SMBJ8.0CA
designator D?  Manufacturer Part Number: SMBJ8.0CA
TVS DIODE 8V 13.6V DO214AA; Manufacturer: Littelfuse; Polarity: Bidirectional; Peak Pulse Power: 600W; Max Surge Current: 44.2A; Breakdown Voltage: 8.89V; Test Current: 1mA; Number of Channels: 1; Leakage Current: 100uA; Power Line Protection: No; Max Breakdown Voltage: 9.83V; Supplier 1: Digi-Key; Stock 1: 700; Pricing 1: 1=0.39, 10=0.313, 25=0.2864, 100=0.1798, 250=0.17784, 500=0.1665, 1000=0.11322 (USD); Mount: Surface Mount; Case/Package: SMB; Number of Pins: 2; Min Operating Temperature: -65°C; Max Operating Temperature: 150°C; Packaging: Tape and Reel; Clamping Voltage: 13.6V; Package Quantity: 3000; Reverse Standoff Voltage: 8V; Min Breakdown Voltage: 8.89V; Peak Pulse Current: 44.2A; Direction: Bidirectional; Reverse Breakdown Voltage: 8.89V; Operating Supply Voltage: 8V; Termination: SMD/SMT; Number of Elements: 1; Number of Bidirectional Channels: 1; Composition: Zener; Max Power Dissipation: 600W; Voltage Rating (DC): 8V; Power Dissipation: 600W; Length: 5.59mm; Height: 2.44mm; Width: 3.94mm; Lead Free: Lead Free; REACH SVHC: No SVHC; ComponentLink1URL: http://www.littelfuse.com/~/media/electronics/datasheets/tvs_diodes/littelfuse_tvs_diode_smbj_datasheet.pdf.pdf?src-supplier=Digi-Key; ComponentLink1Description: http://www.littelfuse.com/~/media/electronics/datasheets/tvs_diodes/littelfuse_tvs_diode_smbj_datasheet.pdf.pdf?src-supplier=Digi-Key; ComponentLink2URL: http://www.littelfuse.com/data/en/Data_Sheets/Littelfuse_TVS-Diode_SMBJ.pdf?src-supplier=Element14; ComponentLink2Description: http://www.littelfuse.com/data/en/Data_Sheets/Littelfuse_TVS-Diode_SMBJ.pdf?src-supplier=Element14; Supplier Part Number 1: SMBJ8.0CALFCT-ND
footprint DIOM4436X26N (Molded Diode, 2-Leads, Body 4.40x3.62mm, IPC Medium Density)
pins: 1 A, 2 K

## SMBJ15A
designator D?  Manufacturer Part Number: SMBJ15A
TVS DIODE 15V 24.4V DO214AA; Manufacturer: Littelfuse; Direction: Unidirectional; Min Breakdown Voltage: 16.7V; Peak Pulse Power: 600W; Peak Pulse Current: 24.6A; Test Current: 1mA; Number of Elements: 1; Power Line Protection: No; Max Breakdown Voltage: 18.5V; Max Reverse Leakage Current: 1uA; Max Power Dissipation: 5W; Element Configuration: Single; ESD Protection: Yes; Current: 68A; Voltage: 5V; Supplier 1: Digi-Key; Stock 1: 73945; Pricing 1: 1=0.45000, 10=0.33900, 25=0.30520, 100=0.21090, 250=0.17760, 500=0.14430, 1000=0.11100 (USD); RoHS: Yes; Mount: Surface Mount; Case/Package: SMB; Number of Pins: 2; Min Operating Temperature: -65°C; Max Operating Temperature: 150°C; Packaging: Tape and Reel; Reverse Standoff Voltage: 15V; Clamping Voltage: 24.4V; Power Dissipation: 600W; Voltage Rating (DC): 15V; Reverse Breakdown Voltage: 16.7V; Package Quantity: 3000; Operating Supply Voltage: 15V; Max Surge Current: 24.6A; Number of Unidirectional Channels: 1; Breakdown Voltage: 16.7V; Number of Channels: 1; Polarity: Unidirectional; Termination: SMD/SMT; Leakage Current: 1uA; Composition: Zener; Length: 4.57mm; Height: 2.237mm; Width: 3.94mm; Radiation Hardening: No; Lead Free: Lead Free; REACH SVHC: Unknown; ComponentLink1URL: https://datasheet.ciiva.com/34301/1078555-34301957.pdf?src-supplier=Jameco; ComponentLink1Description: https://datasheet.ciiva.com/34301/1078555-34301957.pdf?src-supplier=Jameco; ComponentLink2URL: https://datasheet.ciiva.com/25624/0900766b810f4eeb-25624826.pdf?src-supplier=RSComponents; ComponentLink2Description: https://datasheet.ciiva.com/25624/0900766b810f4eeb-25624826.pdf?src-supplier=RSComponents; ComponentLink3URL: https://datasheet.ciiva.com/46385/13057-46385079.pdf?src-supplier=Element14; ComponentLink3Description: https://datasheet.ciiva.com/46385/13057-46385079.pdf?src-supplier=Element14; ComponentLink4URL: https://datasheet.ciiva.com/331/littelfuse-tvs-diode-smbj-datasheet-pdf-331176.pdf?src-supplier=Digi-Key; ComponentLink4Description: https://datasheet.ciiva.com/331/littelfuse-tvs-diode-smbj-datasheet-pdf-331176.pdf?src-supplier=Digi-Key; ComponentLink5URL: https://datasheet.ciiva.com/331/littelfuse-tvs-diode-smbj-datasheet-pdf-331177.pdf?src-supplier=Digi-Key; ComponentLink5Description: https://datasheet.ciiva.com/331/littelfuse-tvs-diode-smbj-datasheet-pdf-331177.pdf?src-supplier=Digi-Key; ComponentLink6URL: https://datasheet.ciiva.com/331/littelfuse-tvs-diode-smbj-datasheet-pdf-331178.pdf?src-supplier=Digi-Key; ComponentLink6Description: https://datasheet.ciiva.com/331/littelfuse-tvs-diode-smbj-datasheet-pdf-331178.pdf?src-supplier=Digi-Key; Supplier 2: Digi-Key; Stock 2: 69911; Pricing 2: 1=0.35000, 10=0.28700, 25=0.26240, 100=0.19540, 250=0.17704, 500=0.14652, 1000=0.10989 (USD); ComponentLink7URL: https://datasheet.ciiva.com/25624/0900766b810f4eeb-25624712.pdf?src-supplier=RSComponents; ComponentLink7Description: https://datasheet.ciiva.com/25624/0900766b810f4eeb-25624712.pdf?src-supplier=RSComponents; ComponentLink8URL: https://datasheet.ciiva.com/34302/1546929-34302459.pdf?src-supplier=Jameco; ComponentLink8Description: https://datasheet.ciiva.com/34302/1546929-34302459.pdf?src-supplier=Jameco; ComponentLink9URL: https://datasheet.ciiva.com/46381/1677318-46381958.pdf?src-supplier=Element14; ComponentLink9Description: https://datasheet.ciiva.com/46381/1677318-46381958.pdf?src-supplier=Element14; ComponentLink10URL: https://datasheet.ciiva.com/331/littelfuse-tvs-diode-smbj-datasheet-pdf-331131.pdf?src-supplier=Digi-Key; ComponentLink10Description: https://datasheet.ciiva.com/331/littelfuse-tvs-diode-smbj-datasheet-pdf-331131.pdf?src-supplier=Digi-Key; ComponentLink11URL: https://datasheet.ciiva.com/331/littelfuse-tvs-diode-smbj-datasheet-pdf-331132.pdf?src-supplier=Digi-Key; ComponentLink11Description: https://datasheet.ciiva.com/331/littelfuse-tvs-diode-smbj-datasheet-pdf-331132.pdf?src-supplier=Digi-Key; ComponentLink12URL: https://datasheet.ciiva.com/331/littelfuse-tvs-diode-smbj-datasheet-pdf-331133.pdf?src-supplier=Digi-Key; ComponentLink12Description: https://datasheet.ciiva.com/331/littelfuse-tvs-diode-smbj-datasheet-pdf-331133.pdf?src-supplier=Digi-Key; Supplier Part Number 2: SMBJ5.0ALFCT-ND; Supplier Part Number 1: SMBJ15ALFCT-ND
footprint DIOM4436X26N (Molded Diode, 2-Leads, Body 4.40x3.62mm, IPC Medium Density)
pins: 1 A, 2 K

## SRR1280A-330M
designator L?  Inductance: 33uH  Manufacturer Part Number: SRR1280A-330M
Inductor Power Shielded Wirewound 33uH 20% 1KHz 28Q-Factor Ferrite 3.5A 57mOhm DCR Automotive T/R; Manufacturer: Bourns; Saturation Current: 3.3A; DC Resistance (DCR): 57mR; Self Resonant Frequency: 9.5MHz; Supplier 1: Newark; Stock 1: 0; Pricing 1: 2400=0.54000, 4000=0.48600, 6000=0.46800, 10000=0.45800 (USD); RoHS: Yes; Mount: Surface Mount; Case/Package: Nonstandard; Core Material: Ferrite; Min Operating Temperature: -40°C; Max Operating Temperature: 125°C; Package Quantity: 400; Packaging: Cut Tape; Tolerance: 20%; Current Rating: 3.5A; Shielding: Shielded; Test Frequency: 1kHz; Inductance Tolerance: 20%; RMS Current (Irms): 3.5A; Military Standard: Not; Max DC Current: 3.5A; Length: 0.492inch; Height: 7.5mm; Width: 0.492inch; Height - Seated (Max): 0.315inch; Depth: 12.8mm; Ratings: AEC-Q200; REACH SVHC: No SVHC; ComponentLink1URL: https://datasheet.ciiva.com/41859/srr1280a-41859670.pdf?src-supplier=Digi-Key; ComponentLink1Description: https://datasheet.ciiva.com/41859/srr1280a-41859670.pdf?src-supplier=Digi-Key; ComponentLink2URL: https://datasheet.ciiva.com/48684/srr1280a-48684991.pdf?src-supplier=Avnet; ComponentLink2Description: https://datasheet.ciiva.com/48684/srr1280a-48684991.pdf?src-supplier=Avnet; Supplier Part Number 1: 06X7909
footprint INDM120125X75N (Molded Inductor, 2-Leads, Body 12.00x12.50mm, IPC Medium Density)
pins: 1, 2

## SRR3818A-1R0Y
designator I?
FIXED IND 1UH 3.6A 37 MOHM SMD; Manufacturer: Bourns Inc.; Manufacturer P/N: SRR3818A-1R0Y; Digikey Link: https://www.digikey.com/product-detail/en/bourns-inc/SRR3818A-1R0Y/SRR3818A-1R0YCT-ND/7556036; Digikey P/N: SRR3818A-1R0YCT-ND
footprint INDM3838X18N (Molded Inductor, 2-Leads, Body 3.80x3.80mm, IPC Medium Density)
pins: 1, 2

## SRR3818A-1R0Y_1
designator I?
FIXED IND 1UH 3.6A 37 MOHM SMD; Manufacturer: Bourns Inc.; Manufacturer P/N: SRR3818A-1R0Y; Digikey Link: https://www.digikey.com/product-detail/en/bourns-inc/SRR3818A-1R0Y/SRR3818A-1R0YCT-ND/7556036; Digikey P/N: SRR3818A-1R0YCT-ND
footprint INDM3838X18N (Molded Inductor, 2-Leads, Body 3.80x3.80mm, IPC Medium Density)
pins: 1, 2

## TP
designator TP?  (value not drawn)
SMD TEST POINT
footprint Test Point (SMD Test Point)
pins: 1